# Altium footprint library RGEF800.PcbLib: 1 footprints
Each footprint in its own frame and in the unit in brackets; x right, y up, seen from the top. Pads: shape width x height; smd on the part's side, far side on the other; paste and mask are expansions set on the pad; w line width, h text height; cw(c..) or ccw(c..) is an arc to the next point about the centre after c.
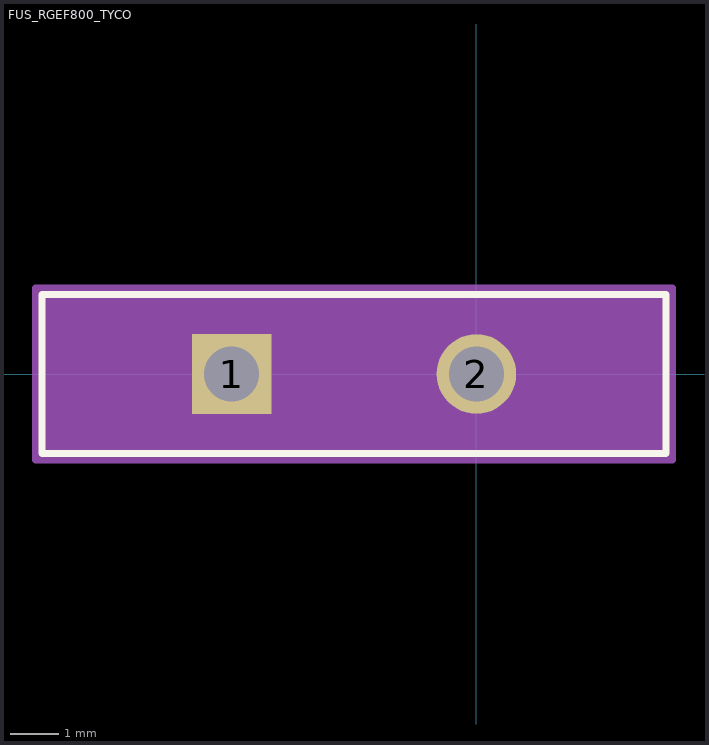
[diagram p0: the footprint, top view; thin cyan lines are the x and y axes]

## FUS_RGEF800_TYCO [mil]
pads (2):
  rect 65x65 hole 45 mask+0: 1(-200,0)
  round 65 hole 45 mask+0: 2(0,0)
Top Overlay:
  lines w6: -355,-65 155,-65 155,65 -355,65 -355,-65
Mechanical 13:
  lines w1: -350,21 -311,60 ; -350,-60 150,-60 150,60 -350,60 -350,-60
Mechanical 15:
  region: 160,-70 -360,-70 -360,70 160,70
  region: 150,-60 -350,-60 -350,60 150,60
  lines w6: -360,-70 -360,70 160,70 160,-70 -360,-70
3D body "FUS_RGEF800_TYCO.stp": height 850, standoff -205, extent -350,-59.99 150,60.01
3D body: height 10, standoff 0, extent 0,0 10,10